# Altium schematic symbol library Aluminium Electrolyt Capacitors.SchLib: 1 symbol
Pins are listed as number, name and electrical type; pins without a type are passive.

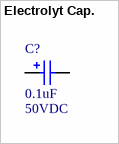
[diagram p0: symbol Electrolyt Cap.]

## Electrolyt Cap.
designator C?  Rated Voltage: 50VDC  Capacitance: 0.1uF  (hidden comment: *)
WCAP-ATG8 Aluminum Electrolytic Capacitor, Radial, THT; Manufacturer Part Number: 860010672001; Manufacturer: Wurth Elektronik; Ripple Current: 3.3mA; Technical Reference: ATBC110R10M050DSPA3B000; Leakage Current: 3uA; Endurance: 2000h; Dissipation Factor: 10%; Capacitance Tolerance: +/-20%; ComponentLink2Description: Datasheet; Published Date: October 2020; Packaging: Ammo Pack; Operating Temperature: -40 to +85degC; Mounting Technology: THT; Height: 11mm; Diameter: 5mm; ComponentLink2URL: https://www.we-online.com/catalog/datasheet/860010672001.pdf; ComponentLink1URL: http://www.we-online.de; ComponentLink1Description: Manufacturer
pins: 1 P, 2 N